# Altium schematic symbol library QUTMS_OctocouplerLibrary.SchLib: 1 symbol
Pins are listed as number, name and electrical type; pins without a type are passive.

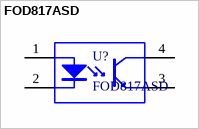
[diagram p0: symbol FOD817ASD]

## FOD817ASD
designator U?
Optoisolator 5kV Transistor 4SMD
footprint FOD817ASD
pins: 1 ANODE, 2 CATHODE, 3 EMITTER, 4 COLLECTOR